# Altium footprint library MPW-4.PcbLib: 1 footprints
Each footprint in its own frame and in the unit in brackets; x right, y up, seen from the top. Pads: shape width x height; smd on the part's side, far side on the other; paste and mask are expansions set on the pad; w line width, h text height; cw(c..) or ccw(c..) is an arc to the next point about the centre after c.
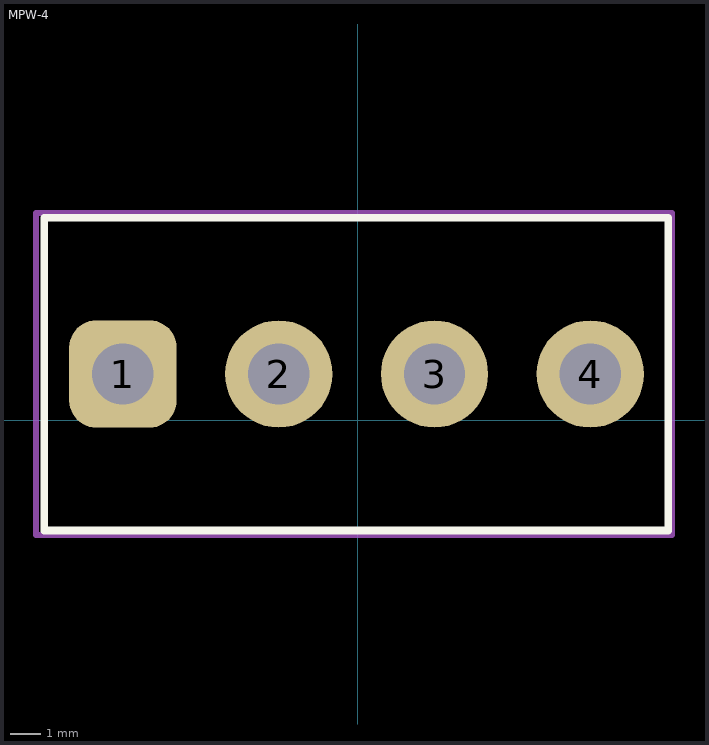
[diagram p0: the footprint, top view; thin cyan lines are the x and y axes]

## MPW-4 [mm]
pads (4):
  rrect50% 3.5x3.5 hole 2: 1(-7.66,1.5)
  round 3.5 hole 2: 2(-2.58,1.5) 3(2.5,1.5) 4(7.58,1.5)
Top Overlay:
  lines w0.254: 10.095,-3.605 -10.225,-3.605 -10.225,6.595 10.12,6.595 10.12,-3.605
Top Courtyard:
  lines w0.2: -10.375,6.75 10.25,6.75 10.25,-3.75 -10.5,-3.75 -10.5,6.75 -10.25,6.75
3D body "MPW-4 (DS1074-4 M).STEP": height 14, standoff -3.5, extent -10.214,-3.439 10.106,6.647